# Altium footprint library PCBlib.PcbLib: 43 footprints (part 2 of 3)
Each footprint in its own frame and in the unit in brackets; x right, y up, seen from the top. Pads: shape width x height; smd on the part's side, far side on the other; paste and mask are expansions set on the pad; w line width, h text height; cw(c..) or ccw(c..) is an arc to the next point about the centre after c.
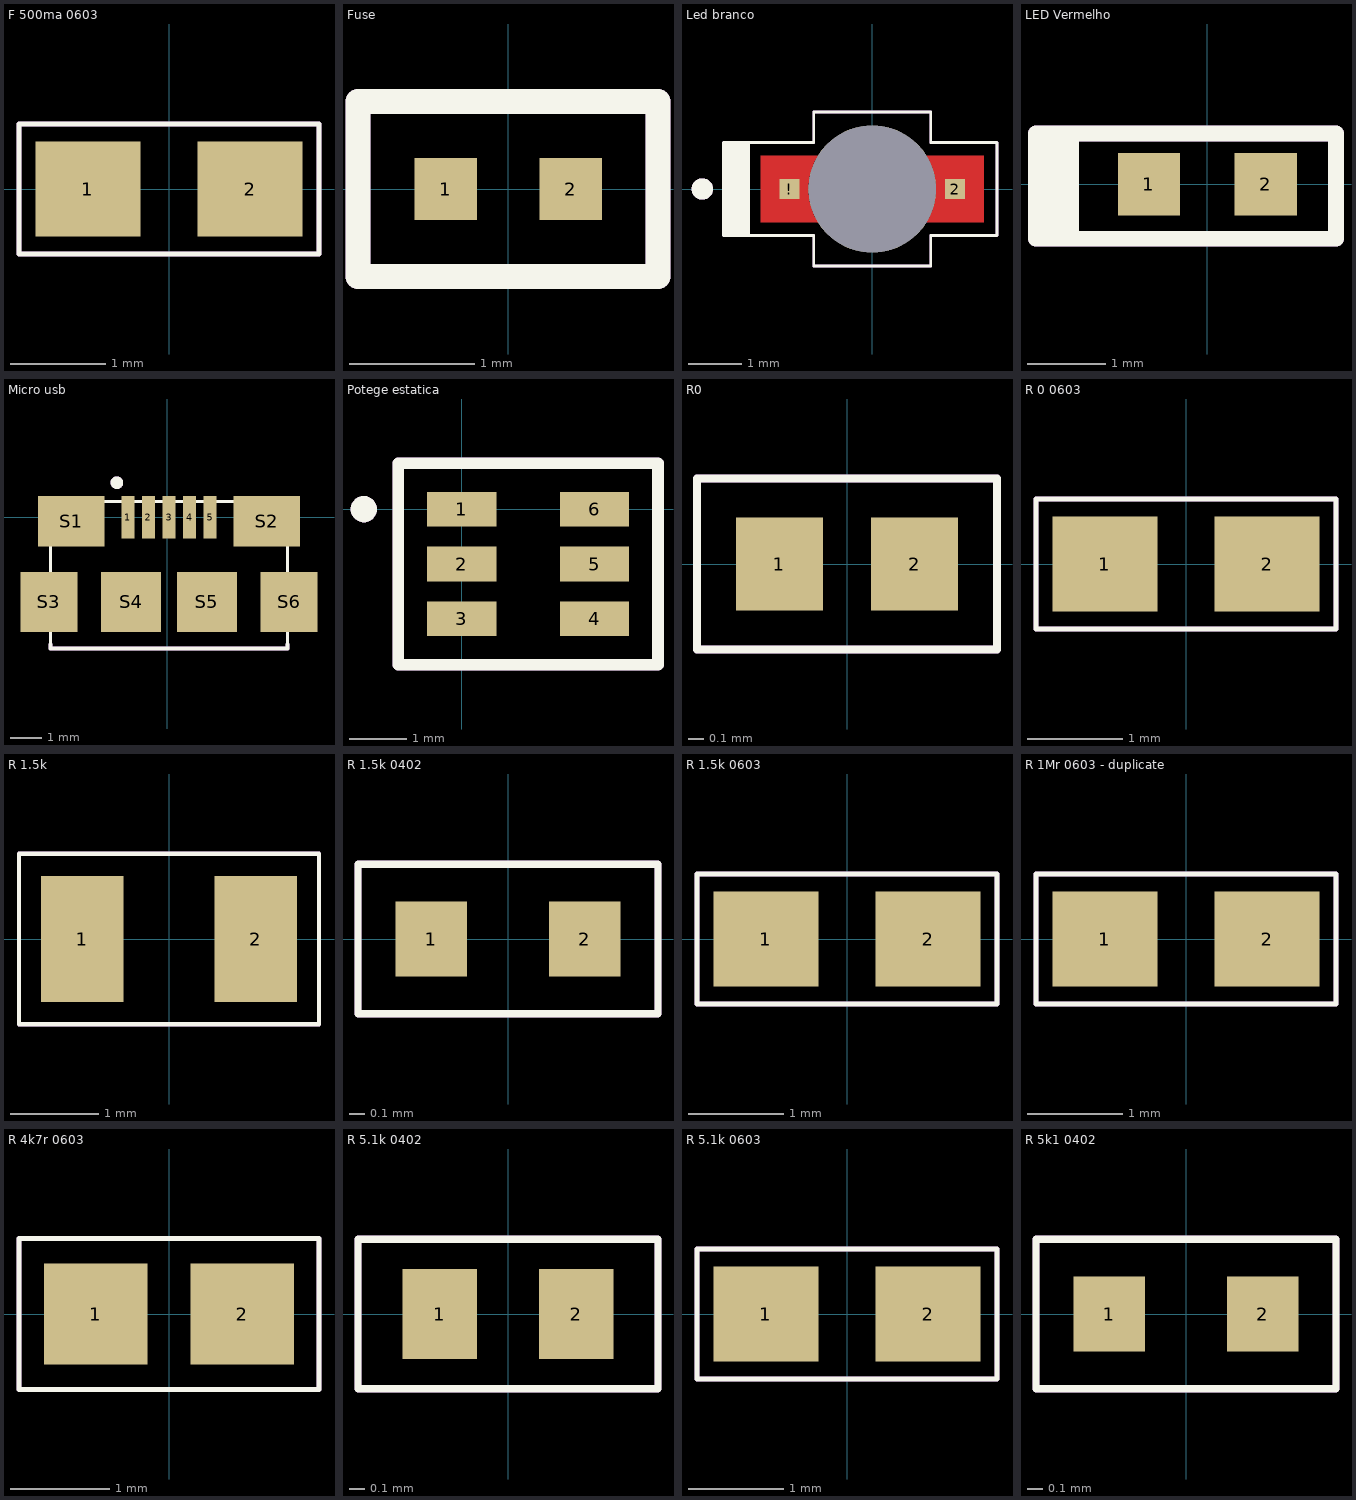
[diagram p1: the footprints below, top view; thin cyan lines are the x and y axes]

## F 500ma 0603 [mm]
pads (2):
  rect 1.1x1 smd: 1(-0.85,0) 2(0.85,0)
Top Overlay:
  lines w0.051: -1.573,-0.683 1.573,-0.683 1.573,0.683 -1.573,0.683 -1.573,-0.683
Top Assembly:
  lines w0.051: -1.573,-0.683 1.573,-0.683 1.573,0.683 -1.573,0.683 -1.573,-0.683
  text ".Designator" at -1.325,-0.617 h0.7
3D body "F 500ma 0603.STEP": height 0.65, standoff 0.01, extent -0.8,-0.4 0.8,0.4

## Fuse [mm]
pads (2):
  rect 0.5x0.5 smd: 1(-0.5,0) 2(0.5,0)
Top Overlay:
  lines w0.2: -1.2,-0.7 1.2,-0.7 1.2,0.7 -1.2,0.7 -1.2,-0.7
Top Assembly:
  lines w0.2: -1.2,-0.7 1.2,-0.7 1.2,0.7 -1.2,0.7 -1.2,-0.7
  text ".Designator" at -0.925,-0.417 h0.7
3D body "fuse.STEP": height 0.5, standoff 0.01, extent -0.5,-0.25 0.5,0.25

## Led branco [mm]
pads (3):
  rect 0.381x0.381 smd paste-1 mask+0: 2(1.56,0) !(-1.56,0)
  round 2.4 hole 2.4 unplated: ""(0,0)
Top Layer:
  region: -1.048,0.587 -1.069,0.549 -1.088,0.51 -1.107,0.47 -1.123,0.429 -1.139,0.388 -1.152,0.346 -1.164,0.304 -1.175,0.261 -1.184,0.218 -1.191,0.175 -1.197,0.131 -1.201,0.088 -1.203,0.044 -1.204,0 -1.203,-0.044 -1.201,-0.088 -1.197,-0.131 -1.191,-0.175 -1.184,-0.218 -1.175,-0.261 -1.164,-0.304 -1.152,-0.346 -1.139,-0.388 -1.123,-0.429 -1.107,-0.47 -1.088,-0.51 -1.069,-0.549 -1.048,-0.587 -1.026,-0.624 -1.075,-0.55 -1.025,-0.625 -2.1,-0.625 -2.1,0.625 -1.025,0.625
  region: 2.1,-0.625 1.025,-0.625 1.048,-0.587 1.069,-0.549 1.088,-0.51 1.107,-0.47 1.123,-0.429 1.139,-0.388 1.152,-0.346 1.164,-0.304 1.175,-0.261 1.184,-0.218 1.191,-0.175 1.197,-0.131 1.201,-0.088 1.203,-0.044 1.204,0 1.203,0.044 1.201,0.088 1.197,0.131 1.191,0.175 1.184,0.218 1.175,0.261 1.164,0.304 1.152,0.346 1.139,0.388 1.123,0.429 1.107,0.47 1.088,0.51 1.069,0.549 1.048,0.587 1.025,0.625 2.1,0.625
  lines w0: -1.075,-0.55 -1.025,-0.625
Bottom Layer:
  lines w0: 1.025,-0.625 1.075,-0.55
Top Overlay:
  circle w0.2: c-3.2,0 r0.1
  rectangle: -2.8,-0.9 -2.3,0.875
  lines w0.05: -2.8,-0.875 -1.1,-0.875 -1.1,-1.45 1.1,-1.45 1.1,-0.875 2.35,-0.875 2.35,0.875 1.1,0.875 1.1,1.45 -1.1,1.45 -1.1,0.875 -2.8,0.875 -2.8,-0.875
Top Paste:
  region: -1.048,0.587 -1.069,0.549 -1.088,0.51 -1.107,0.47 -1.123,0.429 -1.139,0.388 -1.152,0.346 -1.164,0.304 -1.175,0.261 -1.184,0.218 -1.191,0.175 -1.197,0.131 -1.201,0.088 -1.203,0.044 -1.204,0 -1.203,-0.044 -1.201,-0.088 -1.197,-0.131 -1.191,-0.175 -1.184,-0.218 -1.175,-0.261 -1.164,-0.304 -1.152,-0.346 -1.139,-0.388 -1.123,-0.429 -1.107,-0.47 -1.088,-0.51 -1.069,-0.549 -1.048,-0.587 -1.025,-0.625 -2.1,-0.625 -2.1,0.625 -1.025,0.625
  region: 2.1,-0.625 1.025,-0.625 1.048,-0.587 1.069,-0.549 1.088,-0.51 1.107,-0.47 1.123,-0.429 1.139,-0.388 1.152,-0.346 1.164,-0.304 1.175,-0.261 1.184,-0.218 1.191,-0.175 1.197,-0.131 1.201,-0.088 1.203,-0.044 1.204,0 1.203,0.044 1.201,0.088 1.197,0.131 1.191,0.175 1.184,0.218 1.175,0.261 1.164,0.304 1.152,0.346 1.139,0.388 1.123,0.429 1.107,0.47 1.088,0.51 1.069,0.549 1.048,0.587 1.025,0.625 2.1,0.625
  lines w0: 1.025,-0.625 1.075,-0.55
Top Solder:
  region: -0.92,-0.725 -2.2,-0.725 -2.2,0.725 -0.92,0.725
  region: 2.2,-0.725 0.92,-0.725 0.92,0.725 2.2,0.725
Top Assembly:
  circle w0.2: c-3.2,0 r0.1
  rectangle: -2.8,-0.9 -2.3,0.875
  lines w0.05: -2.8,-0.875 -1.1,-0.875 -1.1,-1.45 1.1,-1.45 1.1,-0.875 2.35,-0.875 2.35,0.875 1.1,0.875 1.1,1.45 -1.1,1.45 -1.1,0.875 -2.8,0.875 -2.8,-0.875
  text ".Designator" at -2.125,-0.617 h0.7
3D body "led branco.STEP": height 0.31, standoff -0.79, extent -1.6,-0.6 1.6,0.6

## LED Vermelho [mm]
pads (2):
  rect 0.8x0.8 smd paste-2539.97: 1(-0.75,0) 2(0.75,0)
Top Overlay:
  rectangle: -2.2,-0.775 -1.65,0.65
  lines w0.2: -2.2,-0.7 -2.2,0.65 1.65,0.65 1.65,-0.7 -2.2,-0.7
Top Paste:
  region: 0.35,-0.4 0.35,0.4 1.15,0.4 1.15,-0.4
  region: -1.15,-0.4 -1.15,0.4 -0.35,0.4 -0.35,-0.4
Top Assembly:
  rectangle: -2.2,-0.775 -1.65,0.65
  lines w0.2: -2.2,-0.7 -2.2,0.65 1.65,0.65 1.65,-0.7 -2.2,-0.7
  text ".Designator" at -1.325,-0.417 h0.7
3D body "led vermelho.step": height 0.56, standoff 0.01, extent -0.8,-0.4 0.8,0.4

## Micro usb [mm]
pads (11):
  rect 0.4x1.35 smd: 1(-1.25,0) 2(-0.6,0) 3(0.05,0) 4(0.7,0) 5(1.35,0)
  rect 2.1x1.6 smd: S1(-3.05,-0.125) S2(3.15,-0.125)
  rect 1.8x1.9 smd: S3(-3.75,-2.675) S6(3.85,-2.675)
  rect 1.9x1.9 smd: S4(-1.15,-2.675) S5(1.25,-2.675)
Top Overlay:
  circle w0.2: c-1.6,1.1 r0.1
  lines w0.1: -3.7,-4.025 -3.7,0.5 -1.5,0.5 3.8,0.5 3.8,-4.025
  lines w0.127: -3.7,-4.025 -3.7,-4.15 3.8,-4.15 3.8,-4.025
Top Assembly:
  circle w0.2: c-1.6,1.1 r0.1
  lines w0.1: -3.7,-4.025 -3.7,0.5 -1.5,0.5 3.8,0.5 3.8,-4.025
  lines w0.127: -3.7,-4.025 -3.7,-4.15 3.8,-4.15 3.8,-4.025
  text ".Designator" at -3.525,-3.817 h0.7
3D body "micro usb.STEP": height 2.78, standoff 0.01, extent -3.906,-4.475 4.006,0.625

## Potege estatica [mm]
pads (6):
  rect 1.2x0.6 smd: 1(0,0) 2(0,-0.95) 3(0,-1.9) 4(2.3,-1.9) 5(2.3,-0.95) 6(2.3,0)
Top Overlay:
  circle w0.254: c-1.7,0 r0.1
  lines w0.2: -1.1,-2.7 3.4,-2.7 3.4,0.8 -1.1,0.8 -1.1,-2.7
Top Assembly:
  circle w0.254: c-1.7,0 r0.1
  lines w0.2: -1.1,-2.7 3.4,-2.7 3.4,0.8 -1.1,0.8 -1.1,-2.7
  text ".Designator" at -0.725,-2.217 h0.7
3D body "Protetor curto.step": height 1.31, standoff -0.14, extent -0.3,-2.362 2.5,0.562

## R0 [mm]
pads (2):
  rect 0.56x0.6 smd: 1(-0.435,0) 2(0.435,0)
Top Overlay:
  lines w0.05: -0.965,-0.55 -0.965,0.55 0.965,0.55 0.965,-0.55 -0.965,-0.55
Top Assembly:
  lines w0.05: -0.965,-0.55 -0.965,0.55 0.965,0.55 0.965,-0.55 -0.965,-0.55
  text ".Designator" at -0.725,-0.217 h0.7
3D body "R0 0402.STEP": height 0.38, standoff 0.01, extent -0.5,-0.25 0.5,0.25

## R 0 0603 [mm]
pads (2):
  rect 1.1x1 smd: 1(-0.85,0) 2(0.85,0)
Top Overlay:
  lines w0.051: -1.573,-0.683 1.573,-0.683 1.573,0.683 -1.573,0.683 -1.573,-0.683
Top Assembly:
  lines w0.051: -1.573,-0.683 1.573,-0.683 1.573,0.683 -1.573,0.683 -1.573,-0.683
  text ".Designator" at -1.325,-0.617 h0.7
3D body "R 0 0603.STEP": height 0.56, standoff 0.01, extent -0.825,-0.4 0.775,0.4

## R 1.5k [mm]
pads (2):
  rect 0.93x1.42 smd: 1(-0.979,0) 2(0.979,0)
Top Overlay:
  lines w0.05: -1.692,-0.962 -1.692,0.962 1.692,0.962 1.692,-0.962 -1.692,-0.962
Top Assembly:
  lines w0.05: -1.692,-0.962 -1.692,0.962 1.692,0.962 1.692,-0.962 -1.692,-0.962
  text ".Designator" at -1.225,-0.717 h0.7
3D body "R 1.5k  0805.STEP": height 0.65, standoff 0.01, extent -1.03,-0.635 1,0.635

## R 1.5k 0402 [mm]
pads (2):
  rect 0.475x0.5 smd: 1(-0.512,0) 2(0.512,0)
Top Overlay:
  lines w0.05: -1,-0.5 1,-0.5 1,0.5 -1,0.5 -1,-0.5
Top Assembly:
  lines w0.05: -1,-0.5 1,-0.5 1,0.5 -1,0.5 -1,-0.5
  text ".Designator" at -0.975,-0.467 h0.7
3D body "R 1.5k 0402.step": height 0.36, standoff 0.01, extent -0.5,-0.25 0.5,0.25

## R 1.5k 0603 [mm]
pads (2):
  rect 1.1x1 smd: 1(-0.85,0) 2(0.85,0)
Top Overlay:
  lines w0.051: -1.573,-0.683 -1.573,0.683 1.573,0.683 1.573,-0.683 -1.573,-0.683
Top Assembly:
  lines w0.051: -1.573,-0.683 -1.573,0.683 1.573,0.683 1.573,-0.683 -1.573,-0.683
  text ".Designator" at -1.325,-0.617 h0.7
3D body "R 1.5k 0603.step": height 0.56, standoff 0.01, extent -0.8,-0.4 0.8,0.4

## R 1Mr 0603 - duplicate [mm]
pads (2):
  rect 1.1x1 smd: 1(-0.85,0) 2(0.85,0)
Top Overlay:
  lines w0.051: -1.573,-0.683 1.573,-0.683 1.573,0.683 -1.573,0.683 -1.573,-0.683
Top Assembly:
  lines w0.051: -1.573,-0.683 1.573,-0.683 1.573,0.683 -1.573,0.683 -1.573,-0.683
  text ".Designator" at -1.325,-0.617 h0.7
3D body "R 1m 0603.step": height 0.46, standoff 0.01, extent -0.8,-0.4 0.8,0.4

## R 4k7r 0603 [mm]
pads (2):
  rect 1.04x1.02 smd: 1(-0.735,0) 2(0.735,0)
Top Overlay:
  lines w0.05: -1.508,-0.761 1.508,-0.761 1.508,0.761 -1.508,0.761 -1.508,-0.761
Top Assembly:
  lines w0.05: -1.508,-0.761 1.508,-0.761 1.508,0.761 -1.508,0.761 -1.508,-0.761
  text ".Designator" at -1.325,-0.617 h0.7
3D body "R 4k7r 0603.step": height 0.56, standoff 0.01, extent -0.8,-0.4 0.8,0.4

## R 5.1k 0402 [mm]
pads (2):
  rect 0.5x0.6 smd: 1(-0.455,0) 2(0.455,0)
Top Overlay:
  lines w0.05: -1,-0.5 1,-0.5 1,0.5 -1,0.5 -1,-0.5
Top Assembly:
  lines w0.05: -1,-0.5 1,-0.5 1,0.5 -1,0.5 -1,-0.5
  text ".Designator" at -0.8,-0.367 h0.7
3D body "R 5.1k 0402.step": height 0.41, standoff 0.01, extent -0.5,-0.25 0.5,0.25

## R 5.1k 0603 [mm]
pads (2):
  rect 1.1x1 smd: 1(-0.85,0) 2(0.85,0)
Top Overlay:
  lines w0.051: -1.573,-0.683 1.573,-0.683 1.573,0.683 -1.573,0.683 -1.573,-0.683
Top Assembly:
  lines w0.051: -1.573,-0.683 1.573,-0.683 1.573,0.683 -1.573,0.683 -1.573,-0.683
  text ".Designator" at -1.325,-0.617 h0.7
3D body "R 5.1k 0603.step": height 0.56, standoff 0.01, extent -0.8,-0.4 0.8,0.4

## R 5k1 0402 [mm]
pads (2):
  rect 0.475x0.5 smd: 1(-0.512,0) 2(0.512,0)
Top Overlay:
  lines w0.05: -1,-0.5 1,-0.5 1,0.5 -1,0.5 -1,-0.5
Top Assembly:
  lines w0.05: -1,-0.5 1,-0.5 1,0.5 -1,0.5 -1,-0.5
  text ".Designator" at -0.8,-0.367 h0.7
3D body "R 5k1 0402.step": height 0.36, standoff 0.01, extent -0.5,-0.25 0.5,0.25